# Altium schematic symbol library CONN_EXT_FLX5.SchLib: 1 symbol
Pins are listed as number, name and electrical type; pins without a type are passive.

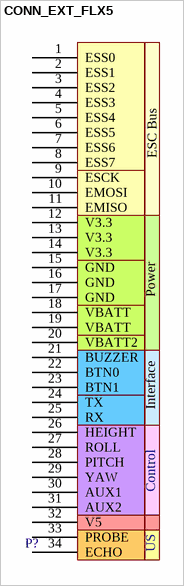
[diagram p0: symbol CONN_EXT_FLX5]

## CONN_EXT_FLX5
designator P?  (value not drawn)  (no BOM)
pins: 1 ESS0, 2 ESS1, 3 ESS2, 4 ESS3, 5 ESS4, 6 ESS5, 7 ESS6, 8 ESS7, 9 ESCK, 10 EMOSI, 11 EMISO, 12 V3.3, 13 V3.3, 14 V3.3, 15 GND, 16 GND, 17 GND, 18 VBATT, 19 VBATT, 20 VBATT2, 21 BUZZER, 22 BTN0, 23 BTN1, 24 TX, 25 RX, 26 HEIGHT, 27 ROLL, 28 PITCH, 29 YAW, 30 AUX1, 31 AUX2, 32 V5, 33 PROBE, 34 ECHO
text: ESC Bus; Power; Interface; Control; US